# EAGLE library part PJ-35368-B-SMT (library mastrogippo)
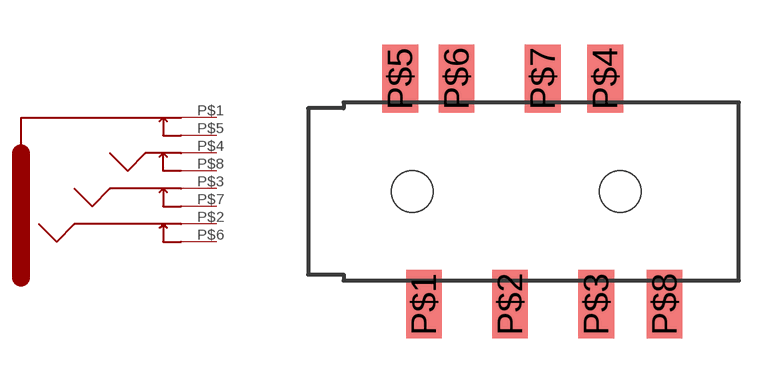
[diagram p35: symbol with the pads of PJ-35368; footprint PJ-35368]

Designator prefix -

## PJ-35368-B-SMT  [PJ-35368]
P$1  P$1
P$2  P$2
P$3  P$3
P$4  P$4
P$5  P$5
P$6  P$6
P$7  P$7
P$8  P$8

## Footprint PJ-35368 (pad centres in mm)
smd 1.2 x 2.3: P$1 2.7,-3.8; P$2 5.6,-3.8; P$3 8.5,-3.8; P$4 8.8,3.8; P$5 1.9,3.8; P$6 3.8,3.8; P$7 6.7,3.8; P$8 10.8,-3.8
hole 1.4 at 2.3,0
hole 1.4 at 9.3,0